# Altium footprint library SMDComponents.PcbLib: 9 footprints
Each footprint in its own frame and in the unit in brackets; x right, y up, seen from the top. Pads: shape width x height; smd on the part's side, far side on the other; paste and mask are expansions set on the pad; w line width, h text height; cw(c..) or ccw(c..) is an arc to the next point about the centre after c.
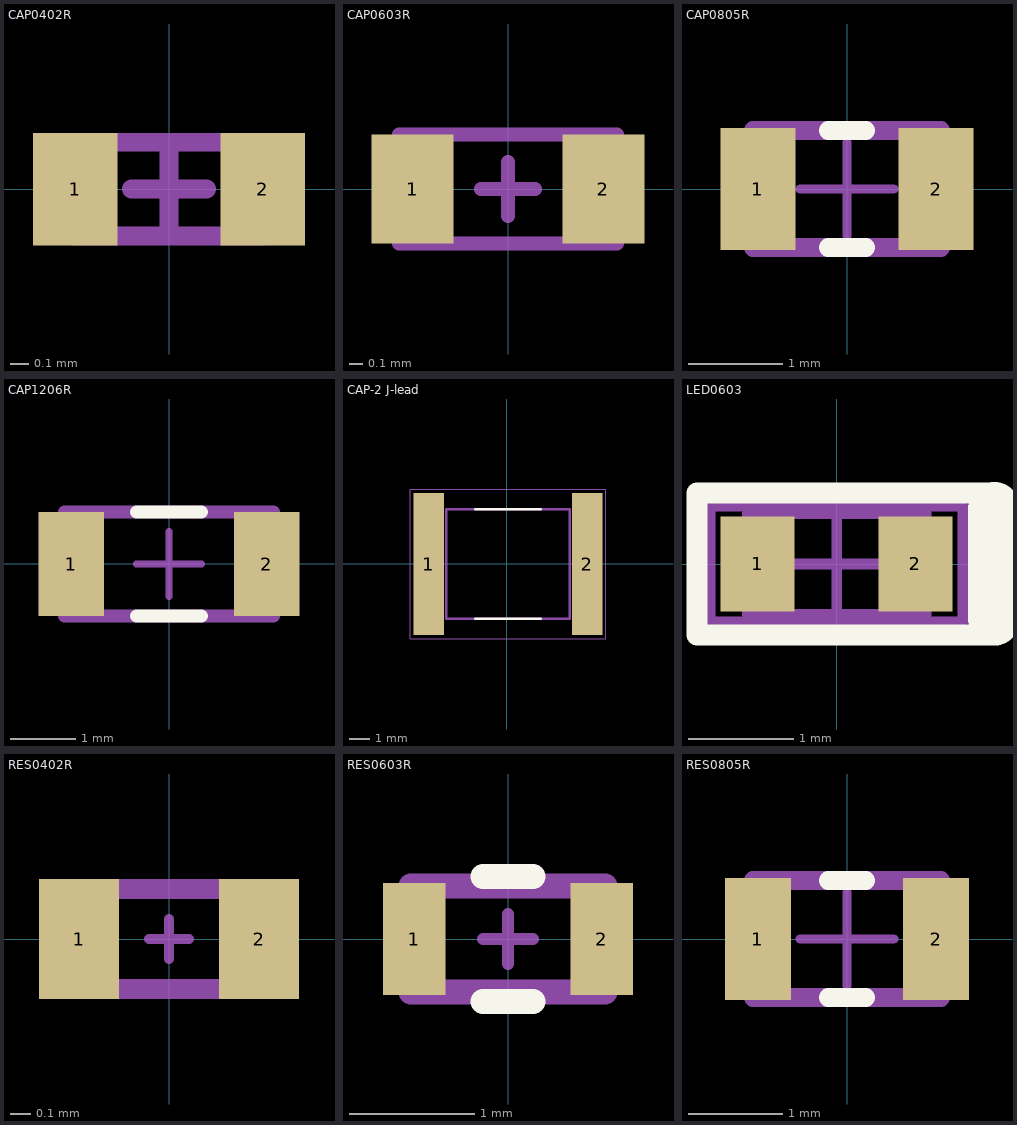
[diagram p0: the footprints below, top view; thin cyan lines are the x and y axes]

## CAP0402R [mm] "Capacitor 0402 reflow soldering"
pads (2):
  rect 0.45x0.6 smd mask+0: 1(-0.5,0) 2(0.5,0)
Mechanical 13:
  lines w0.1: -0.5,-0.25 0.5,-0.25 0.5,0.25 -0.5,0.25 -0.5,-0.25
Mechanical 15:
  lines w0.1: -0.2,0 0.2,0 ; 0,-0.2 0,0.2
3D body "CAP0402.stp": height 0.2, standoff 0, extent -0.5,-0.3 0.5,0.3

## CAP0603R [mm] "capacitor 0603 reflow soldering"
pads (2):
  rect 0.6x0.8 smd mask+0: 1(-0.7,0) 2(0.7,0)
Mechanical 13:
  lines w0.1: -0.8,-0.4 0.8,-0.4 0.8,0.4 -0.8,0.4 -0.8,-0.4
Mechanical 15:
  lines w0.1: -0.2,0 0.2,0 ; 0,-0.2 0,0.2
3D body "CAP0603.stp": height 0.3, standoff 0, extent -0.8,-0.4 0.8,0.4

## CAP0805R [mm] "capacitor 0805 reflow soldering"
pads (2):
  rect 0.8x1.3 smd mask+0: 1(-0.95,0) 2(0.95,0)
Top Overlay:
  lines w0.2: -0.2,-0.625 0.2,-0.625 ; -0.2,0.625 0.2,0.625
Mechanical 13:
  lines w0.2: -1,-0.625 -1,0.625 1,0.625 1,-0.625 -1,-0.625
Mechanical 15:
  lines w0.1: -0.5,0 0.5,0 ; 0,-0.5 0,0.5
3D body "CAP0805.stp": height 0.78, standoff 0, extent -1,-0.625 1,0.625

## CAP1206R [mm] "capacitor 1206 reflow soldering"
pads (2):
  rect 1x1.6 smd mask+0: 1(-1.5,0) 2(1.5,0)
Top Overlay:
  lines w0.2: -0.5,-0.8 0.5,-0.8 ; -0.5,0.8 0.5,0.8
Mechanical 13:
  lines w0.2: -1.6,-0.8 -1.6,0.8 1.6,0.8 1.6,-0.8 -1.6,-0.8
Mechanical 15:
  lines w0.1: -0.5,0 0.5,0 ; 0,-0.5 0,0.5
3D body "CAP1206.stp": height 1, standoff 0, extent -1.6,-0.8 1.6,0.8

## CAP-2 J-lead [mm] "KTJ500B476M76BFT00, 6.60mm x 7.80mm, Ceramic Capacitor X7R Stacked SMD, 2 J-Lead"
height 8.5
pads (2):
  rect 1.5x7 smd: 1(-3.829,-0.009) 2(3.971,-0.009)
Top Overlay:
  lines w0.127: -1.539,-2.709 1.681,-2.709 ; -1.539,2.691 1.681,2.691
Mechanical 13:
  lines w0.127: -2.979,-2.709 -2.979,2.691 ; -2.979,-2.709 3.121,-2.709 ; -2.979,-2.709 -2.979,2.691 ; -2.979,-2.709 3.121,-2.709 ; -2.979,2.691 3.121,2.691 ; -2.979,2.691 3.121,2.691 ; 3.121,-2.709 3.121,2.691 ; 3.121,-2.709 3.121,2.691
Mechanical 15:
  lines w0.05: -4.755,-3.692 -4.755,3.674 4.897,3.674 4.897,-3.692 -4.755,-3.692
3D body: height 0.12, standoff -21.13, extent 0,0 0,0
3D body: height 8.5, standoff 0, extent -3.862,-3.3 3.963,3.088

## LED0603 [mm] "0603 LED footprint, thick line on the cathode"
height 0.9
pads (2):
  rect 0.7x0.9 smd: 1(-0.75,0) 2(0.75,0)
Top Overlay:
  lines w0.2: 1.524,-0.675 -1.325,-0.675 -1.325,0.675 1.524,0.675
  lines w0.5: 1.499,-0.523 1.499,0.527
Mechanical 13:
  lines w0.1: -0.85,-0.475 -0.85,0.475 0.85,0.475 0.85,-0.475 -0.85,-0.475
Mechanical 15:
  lines w0.1: -0.475,0 0.475,0 ; 0,-0.475 0,0.475 ; -1.2,-0.55 -1.2,0.55 1.2,0.55 1.2,-0.55 -1.2,-0.55
3D body "(0603) LED_DIALIGHT_598.stp": height 0.71, standoff 0, extent -0.8,-0.396 0.8,0.396

## RES0402R [mm] "resistor 0402 reflow soldering"
pads (2):
  rect 0.4x0.6 smd mask+0: 1(-0.45,0) 2(0.45,0)
Mechanical 13:
  lines w0.1: -0.5,-0.25 -0.5,0.25 0.5,0.25 0.5,-0.25 -0.5,-0.25
Mechanical 15:
  lines w0.05: -0.1,0 0.1,0 ; 0,-0.1 0,0.1
3D body "RES0402.stp": height 0.3, standoff 0, extent -0.5,-0.25 0.5,0.25

## RES0603R [mm] "resistor 0603 reflow soldering"
pads (2):
  rect 0.5x0.9 smd mask+0: 1(-0.75,0) 2(0.75,0)
Top Overlay:
  lines w0.2: -0.2,-0.5 0.2,-0.5 ; -0.2,0.5 0.2,0.5
Mechanical 13:
  lines w0.2: -0.775,-0.425 0.775,-0.425 0.775,0.425 -0.775,0.425 -0.775,-0.425
Mechanical 15:
  lines w0.1: -0.2,0 0.2,0 ; 0,-0.2 0,0.2
3D body "res0603.stp": height 0.45, standoff 0, extent -0.8,-0.4 0.8,0.4

## RES0805R [mm] "resistor 0805 reflow soldering"
pads (2):
  rect 0.7x1.3 smd mask+0: 1(-0.95,0) 2(0.95,0)
Top Overlay:
  lines w0.2: -0.2,-0.625 0.2,-0.625 ; -0.2,0.625 0.2,0.625
Mechanical 13:
  lines w0.2: -1,-0.625 1,-0.625 1,0.625 -1,0.625 -1,-0.625
Mechanical 15:
  lines w0.1: -0.5,0 0.5,0 ; 0,-0.5 0,0.5
3D body "RES0805.stp": height 0.5, standoff 0, extent -1,-0.63 1,0.62